# Altium schematic symbol library DF3A-5P-2DS.SchLib: 1 symbol
Pins are listed as number, name and electrical type; pins without a type are passive.

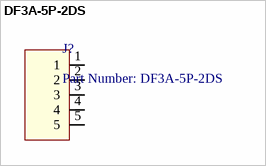
[diagram p0: symbol DF3A-5P-2DS]

## DF3A-5P-2DS
designator J?, comment Part Number: DF3A-5P-2DS
CONN HEADER R/A 5POS 2MM; VENDOR: Hirose; Built_By: EMA_UL_Team; MANUFACTURER_PART_NUMBER: DF3A-5P-2DS; Copyright: Copyright (C) 2018 Accelerated Designs. All rights reserved; RefDes: RefDes; Type: DEV; Value: Value
footprint CON5_1X5_R_DF3
pins: 1, 2, 3, 4, 5